# Altium schematic symbol library eUSR_SchLibrary - Processor.SchLib: 8 symbols
Pins are listed as number, name and electrical type; pins without a type are passive.

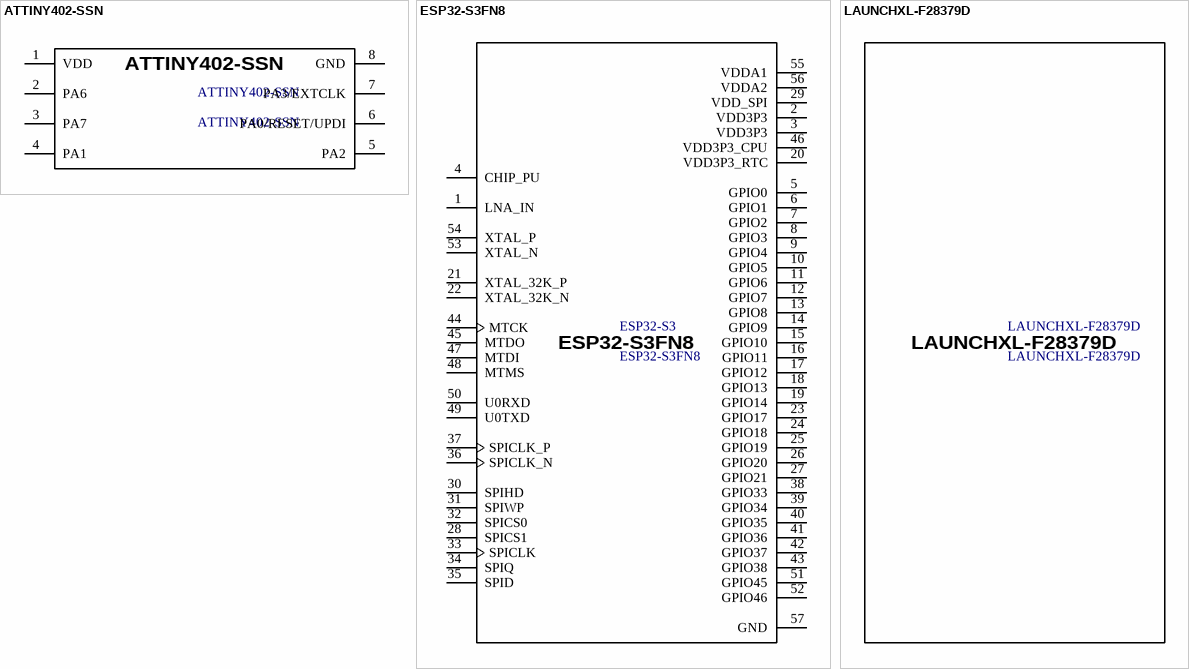
[diagram p0: symbols ATTINY402-SSN to LAUNCHXL-F28379D]

## ATTINY402-SSN
designator ATTINY402-SSN
ComponentLink1Description: Datasheet; ComponentLink1URL: *; ComponentLink2Description: Distributor Link; ComponentLink2URL: *
footprint QFN-56 (Footprint not found)
pins: 1 VDD, 2 PA6 (power), 3 PA7 (power), 4 PA1, 5 PA2, 6 PA0/RESET/UPDI, 7 PA3/EXTCLK, 8 GND

## ESP32-S3FN8
designator ESP32-S3
ComponentLink1Description: Datasheet; ComponentLink1URL: *; ComponentLink2Description: Distributor Link; ComponentLink2URL: *
footprint QFN-56 (Footprint not found)
pins: 1 LNA_IN, 2 VDD3P3 (power), 3 VDD3P3 (power), 4 CHIP_PU, 5 GPIO0, 6 GPIO1, 7 GPIO2, 8 GPIO3, 9 GPIO4, 10 GPIO5, 11 GPIO6, 12 GPIO7, 13 GPIO8, 14 GPIO9, 15 GPIO10, 16 GPIO11, 17 GPIO12, 18 GPIO13, 19 GPIO14, 20 VDD3P3_RTC (power), 21 XTAL_32K_P, 22 XTAL_32K_N, 23 GPIO17, 24 GPIO18, 25 GPIO19, 26 GPIO20, 27 GPIO21, 28 SPICS1, 29 VDD_SPI (power), 30 SPIHD, 31 SPIWP, 32 SPICS0, 33 SPICLK, 34 SPIQ, 35 SPID, 36 SPICLK_N, 37 SPICLK_P, 38 GPIO33, 39 GPIO34, 40 GPIO35, 41 GPIO36, 42 GPIO37, 43 GPIO38, 44 MTCK, 45 MTDO, 46 VDD3P3_CPU (power), 47 MTDI, 48 MTMS, 49 U0TXD, 50 U0RXD, 51 GPIO45, 52 GPIO46, 53 XTAL_N, 54 XTAL_P, 55 VDDA1 (power), 56 VDDA2 (power), 57 GND (power)

## LAUNCHXL-F28379D
designator LAUNCHXL-F28379D
ComponentLink1Description: Datasheet; ComponentLink1URL: *; ComponentLink2Description: Distributor Link; ComponentLink2URL: *
footprint QFN-56 (Footprint not found)

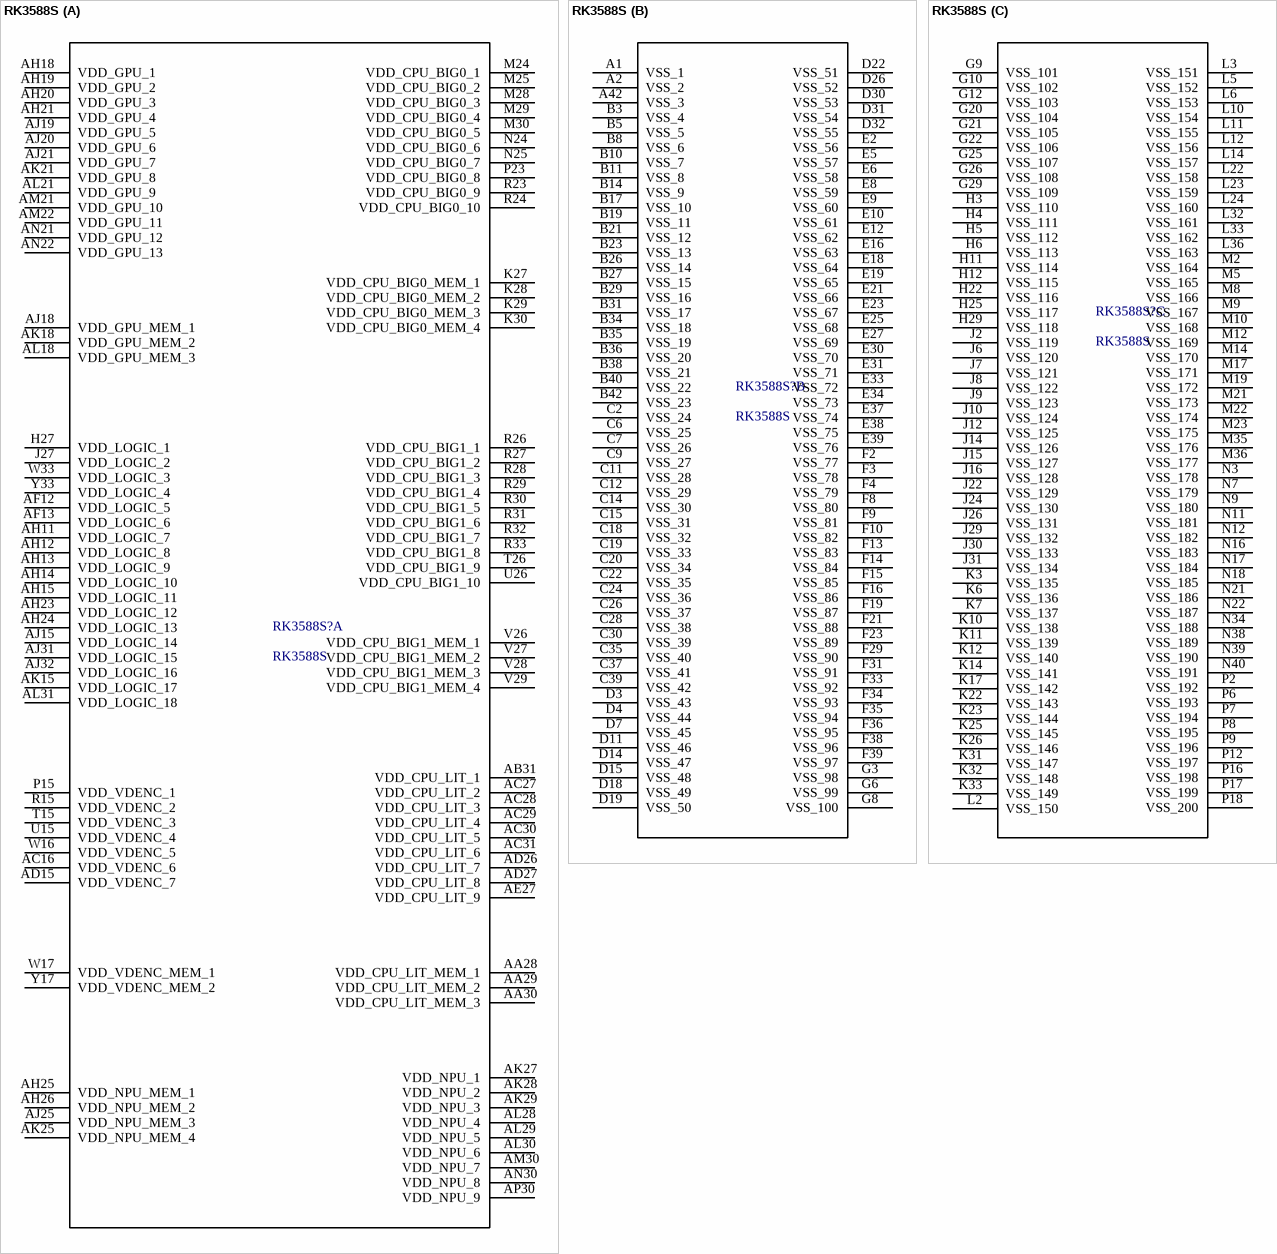
[diagram p1: symbol RK3588S]

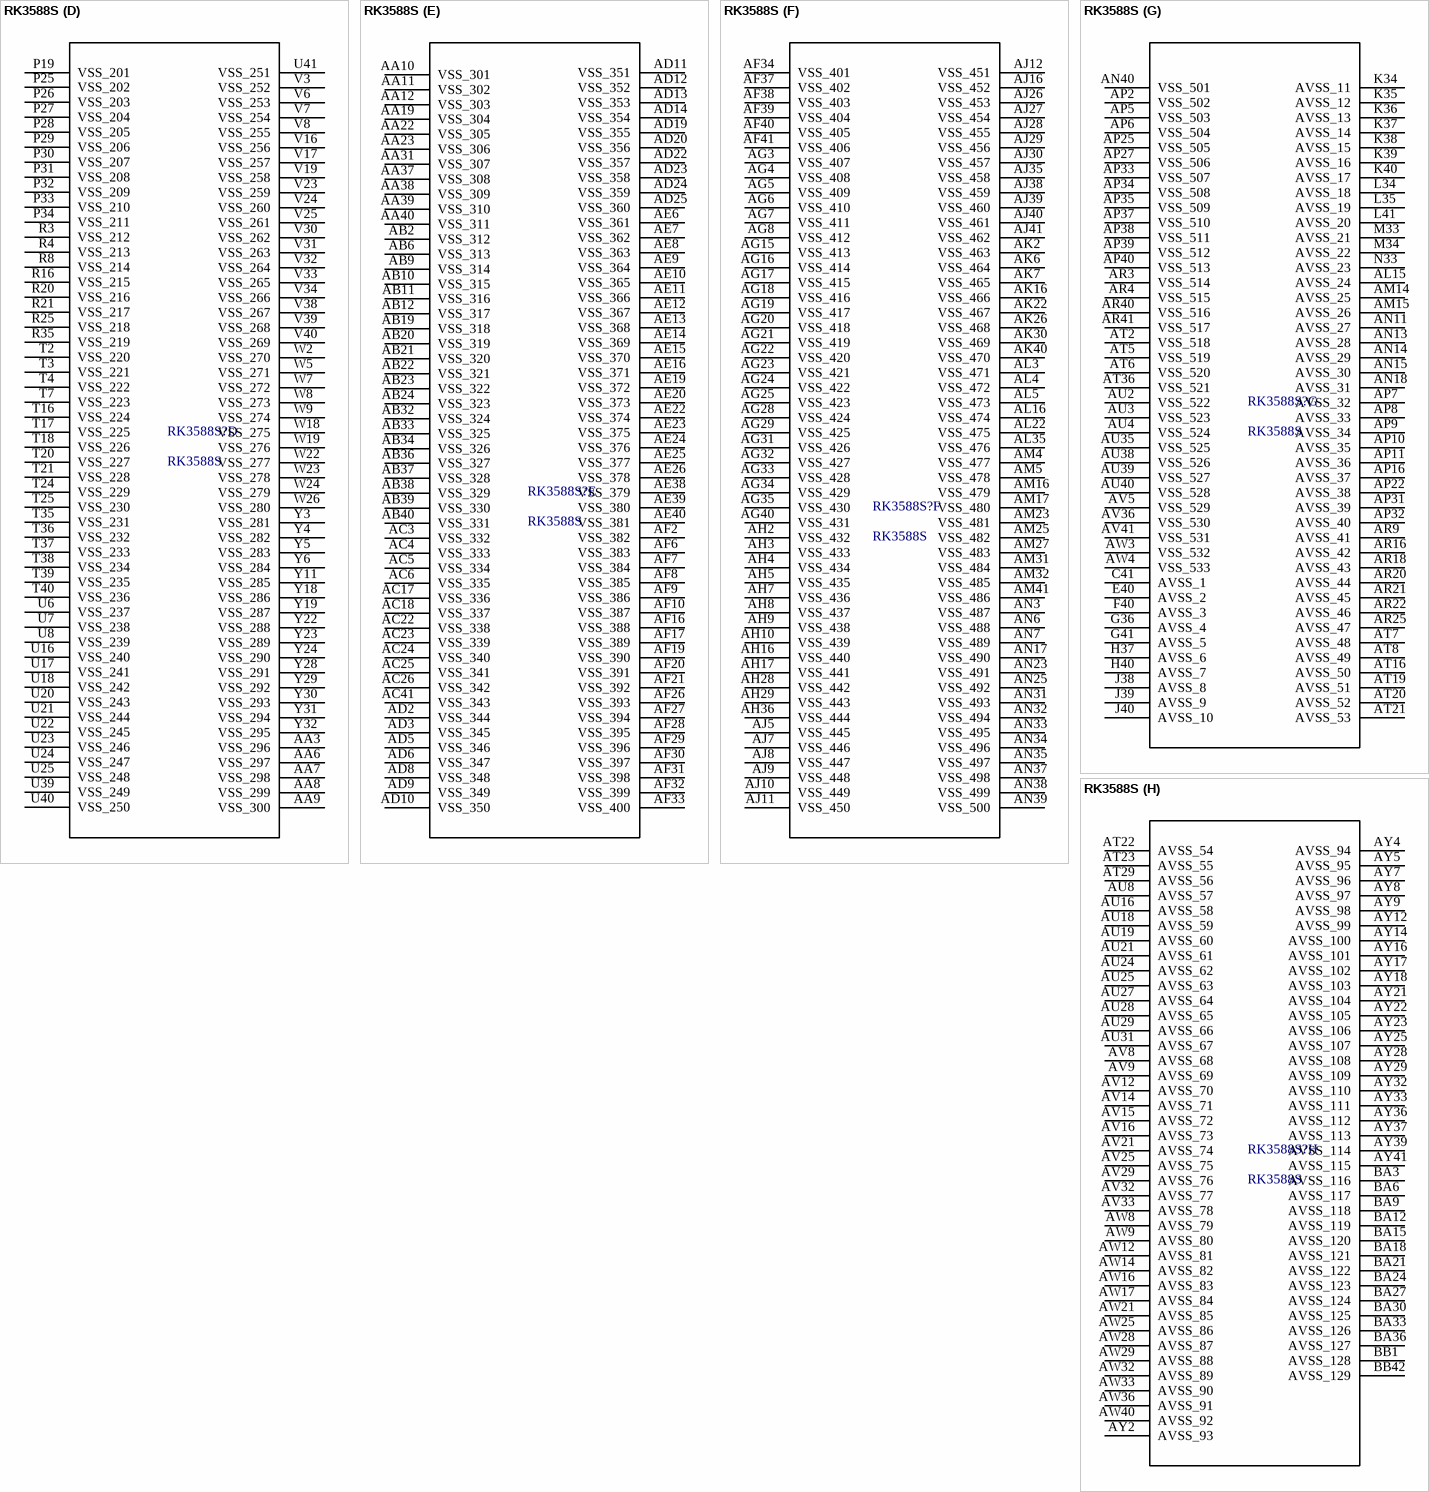
[diagram p2: symbol RK3588S]

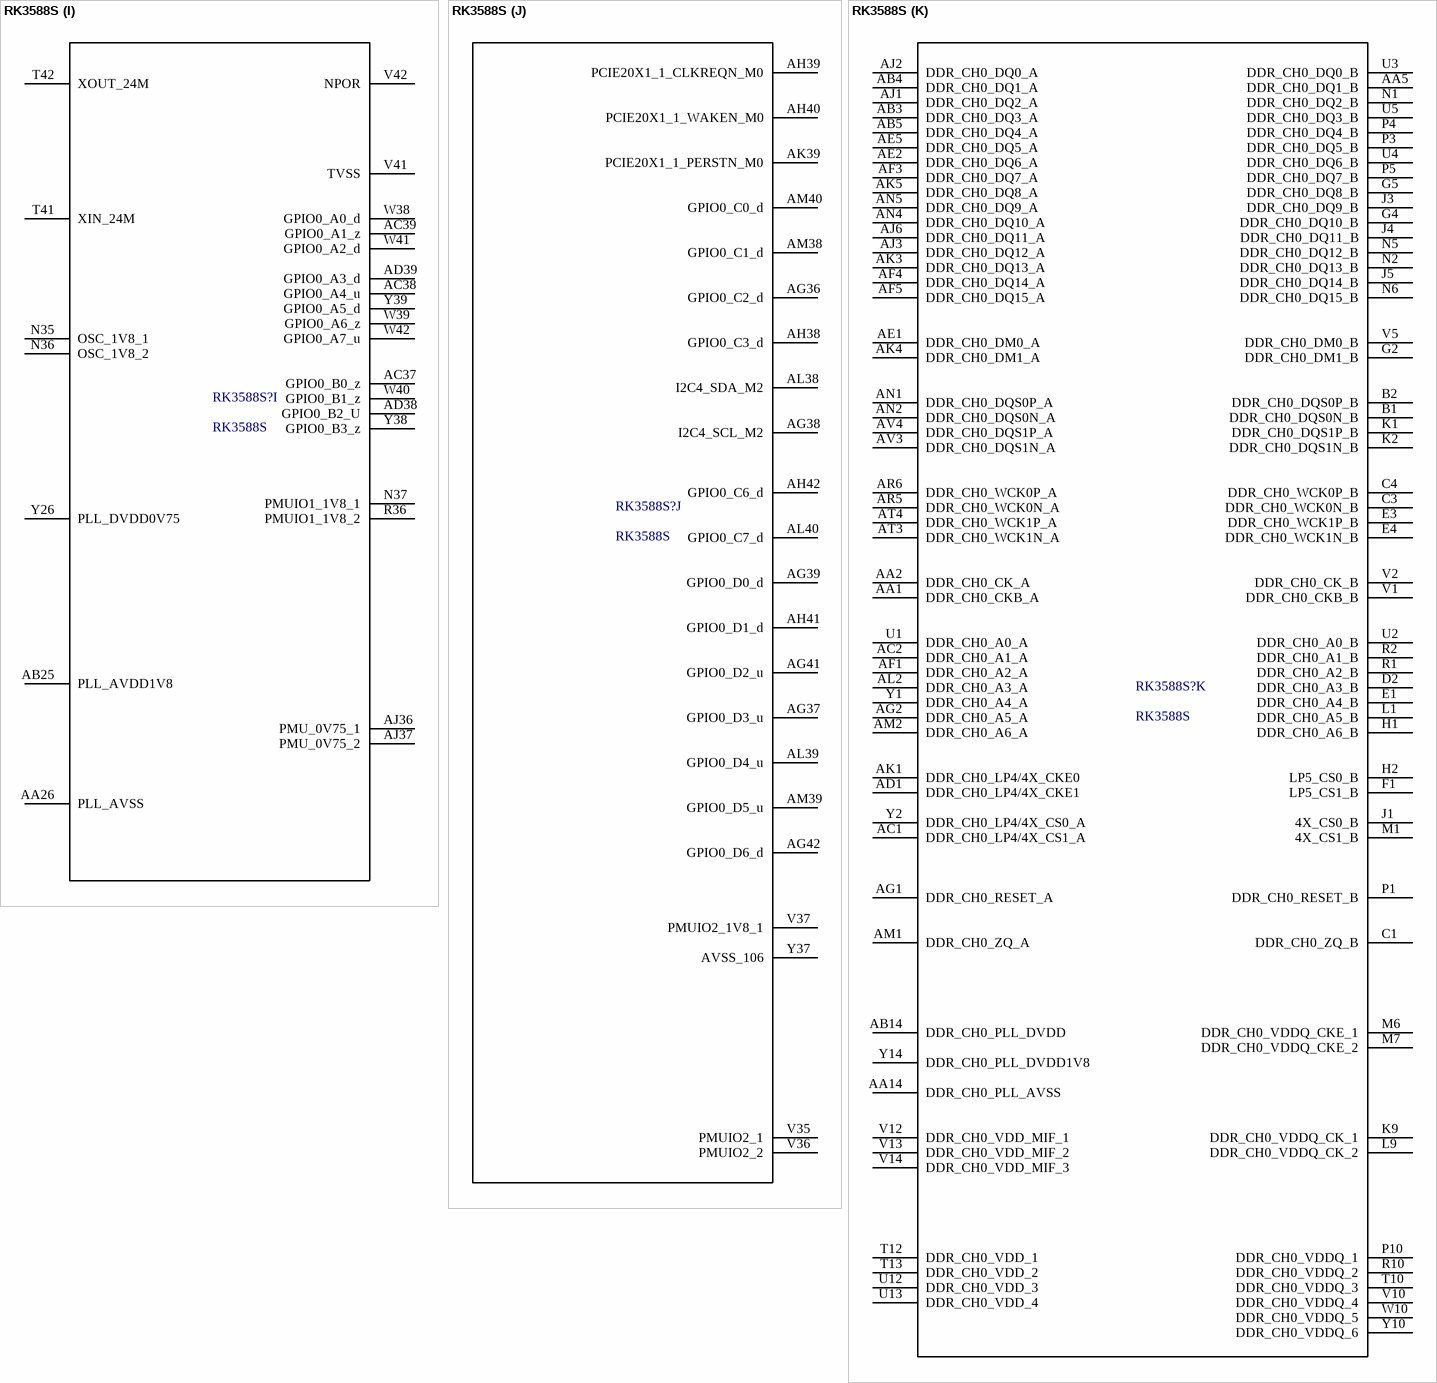
[diagram p3: symbol RK3588S]

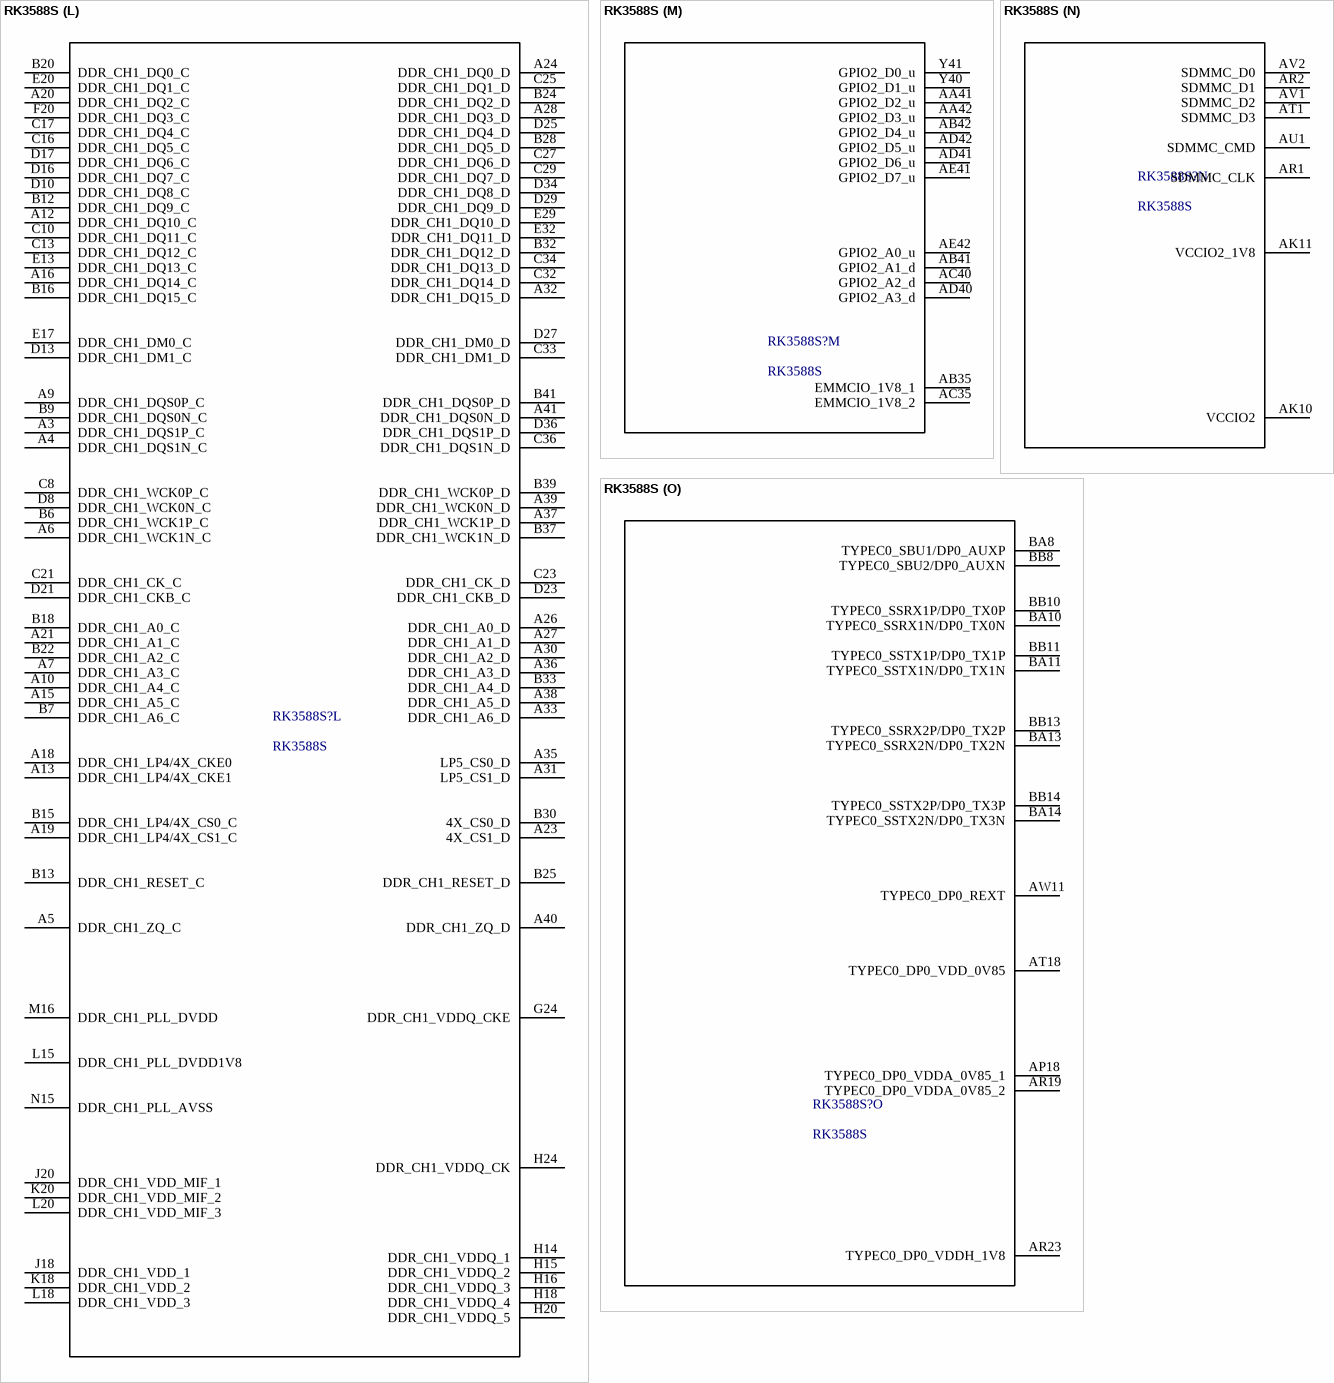
[diagram p4: symbol RK3588S]

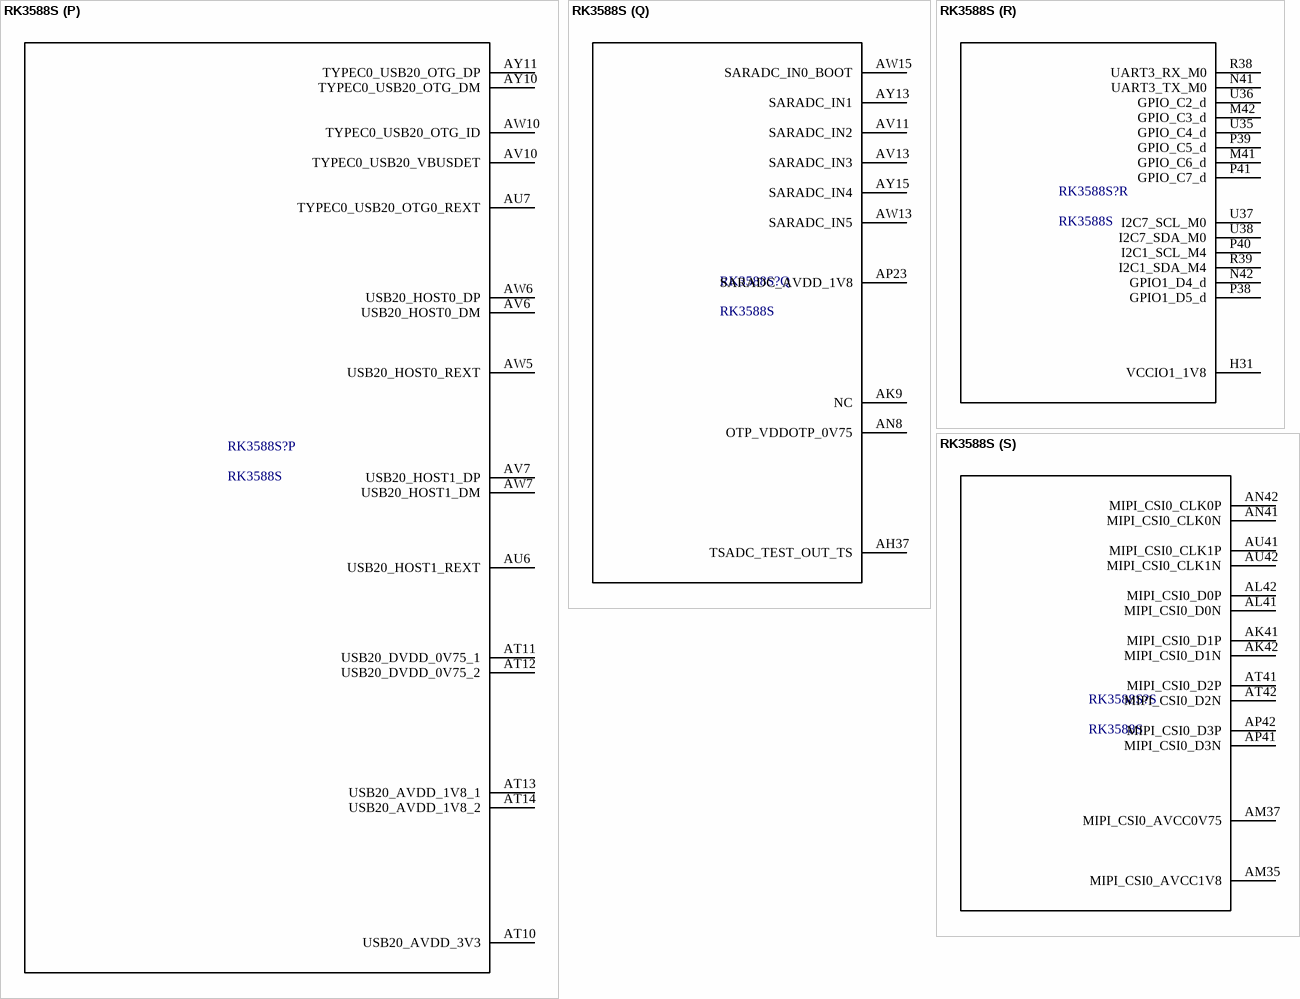
[diagram p5: symbol RK3588S]

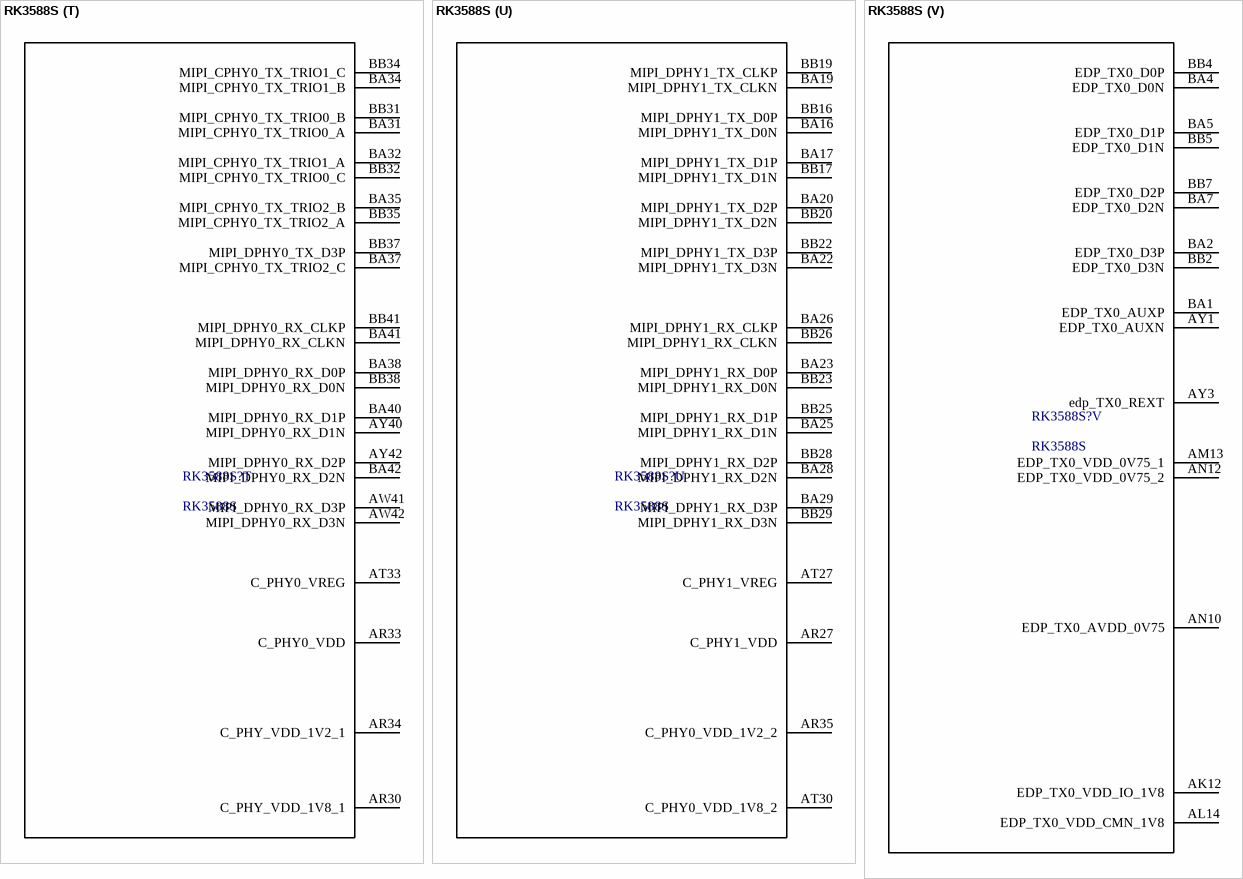
[diagram p6: symbol RK3588S]

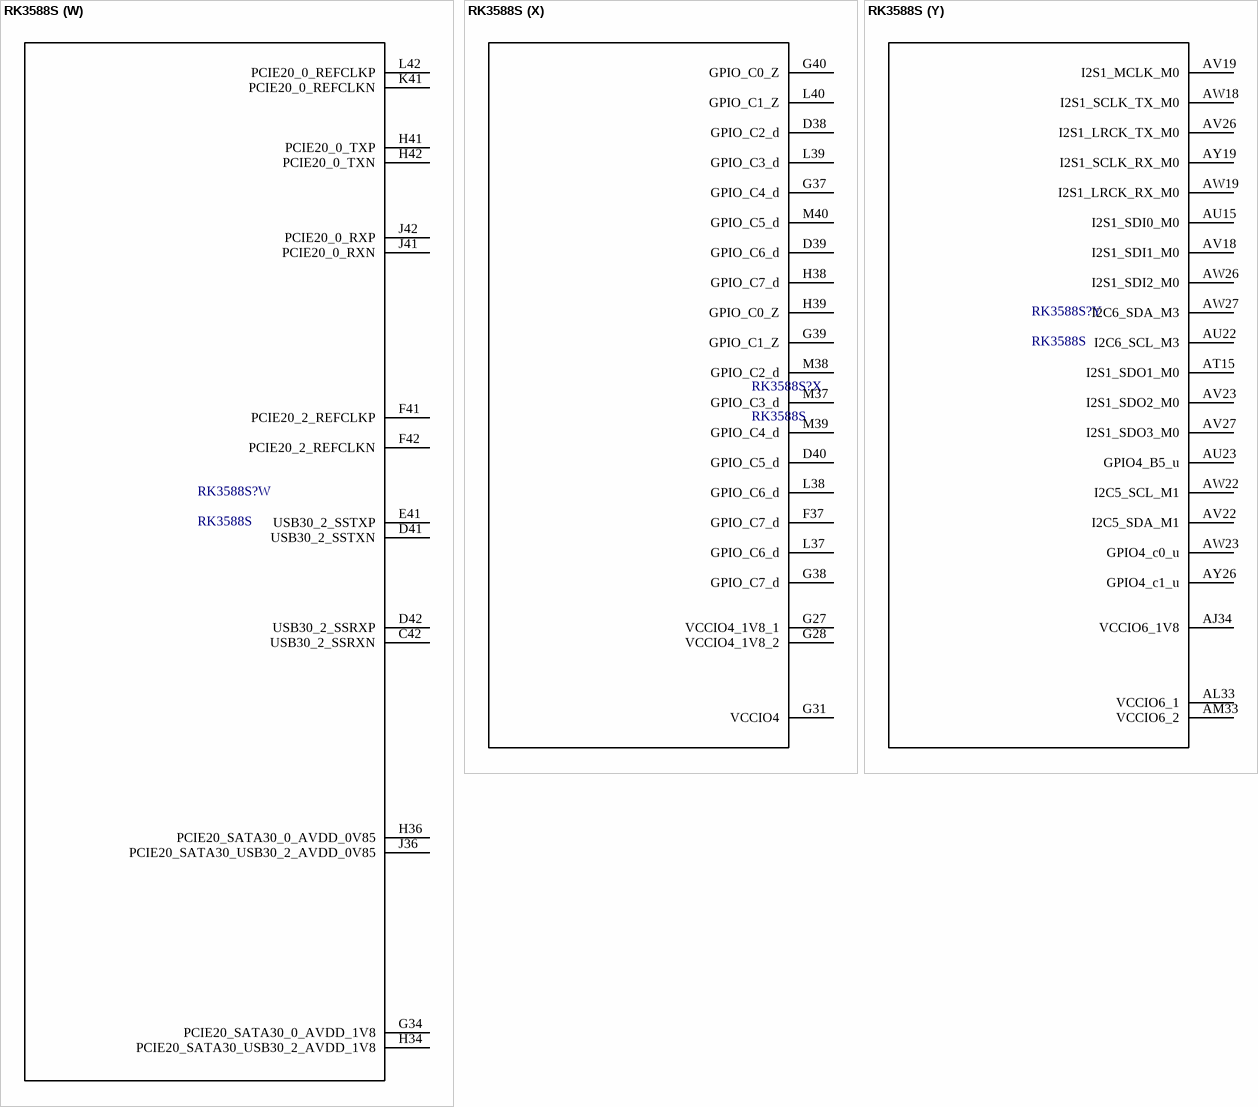
[diagram p7: symbol RK3588S]

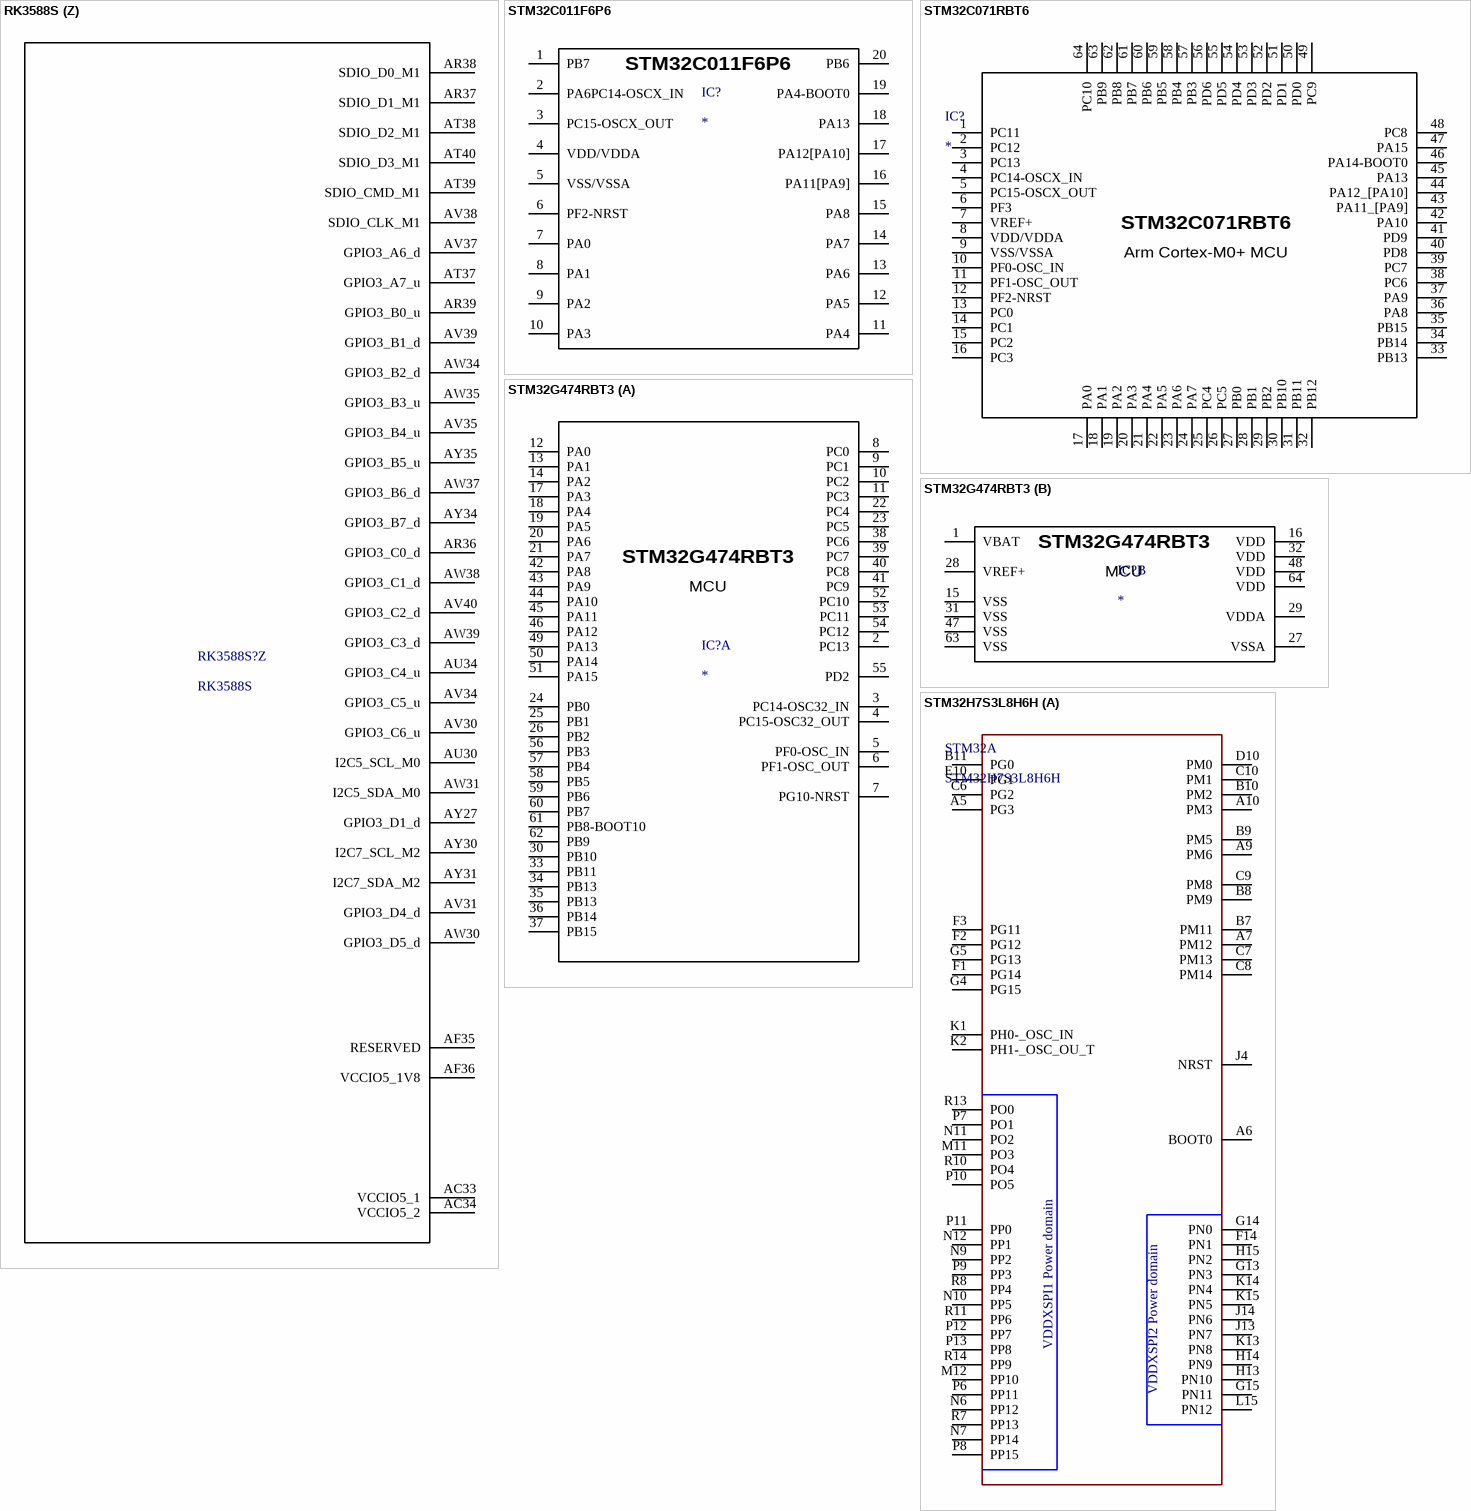
[diagram p8: symbols RK3588S to STM32H7S3L8H6H]

## RK3588S
designator RK3588S?
ComponentLink1Description: Datasheet; ComponentLink1URL: *; ComponentLink2Description: Distributor Link; ComponentLink2URL: *
part A pins: AA28 VDD_CPU_LIT_MEM_1, AA29 VDD_CPU_LIT_MEM_2, AA30 VDD_CPU_LIT_MEM_3, AB31 VDD_CPU_LIT_1, AC16 VDD_VDENC_6, AC27 VDD_CPU_LIT_2, AC28 VDD_CPU_LIT_3, AC29 VDD_CPU_LIT_4, AC30 VDD_CPU_LIT_5, AC31 VDD_CPU_LIT_6, AD15 VDD_VDENC_7, AD26 VDD_CPU_LIT_7, AD27 VDD_CPU_LIT_8, AE27 VDD_CPU_LIT_9, AF12 VDD_LOGIC_5, AF13 VDD_LOGIC_6, AH11 VDD_LOGIC_7, AH12 VDD_LOGIC_8, AH13 VDD_LOGIC_9, AH14 VDD_LOGIC_10, AH15 VDD_LOGIC_11, AH18 VDD_GPU_1, AH19 VDD_GPU_2, AH20 VDD_GPU_3, AH21 VDD_GPU_4, AH23 VDD_LOGIC_12, AH24 VDD_LOGIC_13, AH25 VDD_NPU_MEM_1, AH26 VDD_NPU_MEM_2, AJ15 VDD_LOGIC_14, AJ18 VDD_GPU_MEM_1, AJ19 VDD_GPU_5, AJ20 VDD_GPU_6, AJ21 VDD_GPU_7, AJ25 VDD_NPU_MEM_3, AJ31 VDD_LOGIC_15, AJ32 VDD_LOGIC_16, AK15 VDD_LOGIC_17, AK18 VDD_GPU_MEM_2, AK21 VDD_GPU_8, AK25 VDD_NPU_MEM_4, AK27 VDD_NPU_1, AK28 VDD_NPU_2, AK29 VDD_NPU_3, AL18 VDD_GPU_MEM_3, AL21 VDD_GPU_9, AL28 VDD_NPU_4, AL29 VDD_NPU_5, AL30 VDD_NPU_6, AL31 VDD_LOGIC_18, AM21 VDD_GPU_10, AM22 VDD_GPU_11, AM30 VDD_NPU_7, AN21 VDD_GPU_12, AN22 VDD_GPU_13, AN30 VDD_NPU_8, AP30 VDD_NPU_9, H27 VDD_LOGIC_1, J27 VDD_LOGIC_2, K27 VDD_CPU_BIG0_MEM_1, K28 VDD_CPU_BIG0_MEM_2, K29 VDD_CPU_BIG0_MEM_3, K30 VDD_CPU_BIG0_MEM_4, M24 VDD_CPU_BIG0_1, M25 VDD_CPU_BIG0_2, M28 VDD_CPU_BIG0_3, M29 VDD_CPU_BIG0_4, M30 VDD_CPU_BIG0_5, N24 VDD_CPU_BIG0_6, N25 VDD_CPU_BIG0_7, P15 VDD_VDENC_1, P23 VDD_CPU_BIG0_8, R15 VDD_VDENC_2, R23 VDD_CPU_BIG0_9, R24 VDD_CPU_BIG0_10, R26 VDD_CPU_BIG1_1, R27 VDD_CPU_BIG1_2, R28 VDD_CPU_BIG1_3, R29 VDD_CPU_BIG1_4, R30 VDD_CPU_BIG1_5, R31 VDD_CPU_BIG1_6, R32 VDD_CPU_BIG1_7, R33 VDD_CPU_BIG1_8, T15 VDD_VDENC_3, T26 VDD_CPU_BIG1_9, U15 VDD_VDENC_4, U26 VDD_CPU_BIG1_10, V26 VDD_CPU_BIG1_MEM_1, V27 VDD_CPU_BIG1_MEM_2, V28 VDD_CPU_BIG1_MEM_3, V29 VDD_CPU_BIG1_MEM_4, W16 VDD_VDENC_5, W17 VDD_VDENC_MEM_1, W33 VDD_LOGIC_3, Y17 VDD_VDENC_MEM_2, Y33 VDD_LOGIC_4
part B pins: A1 VSS_1, A2 VSS_2, A42 VSS_3, B3 VSS_4, B5 VSS_5, B8 VSS_6, B10 VSS_7, B11 VSS_8, B14 VSS_9, B17 VSS_10, B19 VSS_11, B21 VSS_12, B23 VSS_13, B26 VSS_14, B27 VSS_15, B29 VSS_16, B31 VSS_17, B34 VSS_18, B35 VSS_19, B36 VSS_20, B38 VSS_21, B40 VSS_22, B42 VSS_23, C2 VSS_24, C6 VSS_25, C7 VSS_26, C9 VSS_27, C11 VSS_28, C12 VSS_29, C14 VSS_30, C15 VSS_31, C18 VSS_32, C19 VSS_33, C20 VSS_34, C22 VSS_35, C24 VSS_36, C26 VSS_37, C28 VSS_38, C30 VSS_39, C35 VSS_40, C37 VSS_41, C39 VSS_42, D3 VSS_43, D4 VSS_44, D7 VSS_45, D11 VSS_46, D14 VSS_47, D15 VSS_48, D18 VSS_49, D19 VSS_50, D22 VSS_51, D26 VSS_52, D30 VSS_53, D31 VSS_54, D32 VSS_55, E2 VSS_56, E5 VSS_57, E6 VSS_58, E8 VSS_59, E9 VSS_60, E10 VSS_61, E12 VSS_62, E16 VSS_63, E18 VSS_64, E19 VSS_65, E21 VSS_66, E23 VSS_67, E25 VSS_68, E27 VSS_69, E30 VSS_70, E31 VSS_71, E33 VSS_72, E34 VSS_73, E37 VSS_74, E38 VSS_75, E39 VSS_76, F2 VSS_77, F3 VSS_78, F4 VSS_79, F8 VSS_80, F9 VSS_81, F10 VSS_82, F13 VSS_83, F14 VSS_84, F15 VSS_85, F16 VSS_86, F19 VSS_87, F21 VSS_88, F23 VSS_89, F29 VSS_90, F31 VSS_91, F33 VSS_92, F34 VSS_93, F35 VSS_94, F36 VSS_95, F38 VSS_96, F39 VSS_97, G3 VSS_98, G6 VSS_99, G8 VSS_100
part C pins: G9 VSS_101, G10 VSS_102, G12 VSS_103, G20 VSS_104, G21 VSS_105, G22 VSS_106, G25 VSS_107, G26 VSS_108, G29 VSS_109, H3 VSS_110, H4 VSS_111, H5 VSS_112, H6 VSS_113, H11 VSS_114, H12 VSS_115, H22 VSS_116, H25 VSS_117, H29 VSS_118, J2 VSS_119, J6 VSS_120, J7 VSS_121, J8 VSS_122, J9 VSS_123, J10 VSS_124, J12 VSS_125, J14 VSS_126, J15 VSS_127, J16 VSS_128, J22 VSS_129, J24 VSS_130, J26 VSS_131, J29 VSS_132, J30 VSS_133, J31 VSS_134, K3 VSS_135, K6 VSS_136, K7 VSS_137, K10 VSS_138, K11 VSS_139, K12 VSS_140, K14 VSS_141, K17 VSS_142, K22 VSS_143, K23 VSS_144, K25 VSS_145, K26 VSS_146, K31 VSS_147, K32 VSS_148, K33 VSS_149, L2 VSS_150, L3 VSS_151, L5 VSS_152, L6 VSS_153, L10 VSS_154, L11 VSS_155, L12 VSS_156, L14 VSS_157, L22 VSS_158, L23 VSS_159, L24 VSS_160, L32 VSS_161, L33 VSS_162, L36 VSS_163, M2 VSS_164, M5 VSS_165, M8 VSS_166, M9 VSS_167, M10 VSS_168, M12 VSS_169, M14 VSS_170, M17 VSS_171, M19 VSS_172, M21 VSS_173, M22 VSS_174, M23 VSS_175, M35 VSS_176, M36 VSS_177, N3 VSS_178, N7 VSS_179, N9 VSS_180, N11 VSS_181, N12 VSS_182, N16 VSS_183, N17 VSS_184, N18 VSS_185, N21 VSS_186, N22 VSS_187, N34 VSS_188, N38 VSS_189, N39 VSS_190, N40 VSS_191, P2 VSS_192, P6 VSS_193, P7 VSS_194, P8 VSS_195, P9 VSS_196, P12 VSS_197, P16 VSS_198, P17 VSS_199, P18 VSS_200
part D pins: AA3 VSS_296, AA6 VSS_297, AA7 VSS_298, AA8 VSS_299, AA9 VSS_300, P19 VSS_201, P25 VSS_202, P26 VSS_203, P27 VSS_204, P28 VSS_205, P29 VSS_206, P30 VSS_207, P31 VSS_208, P32 VSS_209, P33 VSS_210, P34 VSS_211, R3 VSS_212, R4 VSS_213, R8 VSS_214, R16 VSS_215, R20 VSS_216, R21 VSS_217, R25 VSS_218, R35 VSS_219, T2 VSS_220, T3 VSS_221, T4 VSS_222, T7 VSS_223, T16 VSS_224, T17 VSS_225, T18 VSS_226, T20 VSS_227, T21 VSS_228, T24 VSS_229, T25 VSS_230, T35 VSS_231, T36 VSS_232, T37 VSS_233, T38 VSS_234, T39 VSS_235, T40 VSS_236, U6 VSS_237, U7 VSS_238, U8 VSS_239, U16 VSS_240, U17 VSS_241, U18 VSS_242, U20 VSS_243, U21 VSS_244, U22 VSS_245, U23 VSS_246, U24 VSS_247, U25 VSS_248, U39 VSS_249, U40 VSS_250, U41 VSS_251, V3 VSS_252, V6 VSS_253, V7 VSS_254, V8 VSS_255, V16 VSS_256, V17 VSS_257, V19 VSS_258, V23 VSS_259, V24 VSS_260, V25 VSS_261, V30 VSS_262, V31 VSS_263, V32 VSS_264, V33 VSS_265, V34 VSS_266, V38 VSS_267, V39 VSS_268, V40 VSS_269, W2 VSS_270, W5 VSS_271, W7 VSS_272, W8 VSS_273, W9 VSS_274, W18 VSS_275, W19 VSS_276, W22 VSS_277, W23 VSS_278, W24 VSS_279, W26 VSS_280, Y3 VSS_281, Y4 VSS_282, Y5 VSS_283, Y6 VSS_284, Y11 VSS_285, Y18 VSS_286, Y19 VSS_287, Y22 VSS_288, Y23 VSS_289, Y24 VSS_290, Y28 VSS_291, Y29 VSS_292, Y30 VSS_293, Y31 VSS_294, Y32 VSS_295
part E pins: AA10 VSS_301, AA11 VSS_302, AA12 VSS_303, AA19 VSS_304, AA22 VSS_305, AA23 VSS_306, AA31 VSS_307, AA37 VSS_308, AA38 VSS_309, AA39 VSS_310, AA40 VSS_311, AB2 VSS_312, AB6 VSS_313, AB9 VSS_314, AB10 VSS_315, AB11 VSS_316, AB12 VSS_317, AB19 VSS_318, AB20 VSS_319, AB21 VSS_320, AB22 VSS_321, AB23 VSS_322, AB24 VSS_323, AB32 VSS_324, AB33 VSS_325, AB34 VSS_326, AB36 VSS_327, AB37 VSS_328, AB38 VSS_329, AB39 VSS_330, AB40 VSS_331, AC3 VSS_332, AC4 VSS_333, AC5 VSS_334, AC6 VSS_335, AC17 VSS_336, AC18 VSS_337, AC22 VSS_338, AC23 VSS_339, AC24 VSS_340, AC25 VSS_341, AC26 VSS_342, AC41 VSS_343, AD2 VSS_344, AD3 VSS_345, AD5 VSS_346, AD6 VSS_347, AD8 VSS_348, AD9 VSS_349, AD10 VSS_350, AD11 VSS_351, AD12 VSS_352, AD13 VSS_353, AD14 VSS_354, AD19 VSS_355, AD20 VSS_356, AD22 VSS_357, AD23 VSS_358, AD24 VSS_359, AD25 VSS_360, AE6 VSS_361, AE7 VSS_362, AE8 VSS_363, AE9 VSS_364, AE10 VSS_365, AE11 VSS_366, AE12 VSS_367, AE13 VSS_368, AE14 VSS_369, AE15 VSS_370, AE16 VSS_371, AE19 VSS_372, AE20 VSS_373, AE22 VSS_374, AE23 VSS_375, AE24 VSS_376, AE25 VSS_377, AE26 VSS_378, AE38 VSS_379, AE39 VSS_380, AE40 VSS_381, AF2 VSS_382, AF6 VSS_383, AF7 VSS_384, AF8 VSS_385, AF9 VSS_386, AF10 VSS_387, AF16 VSS_388, AF17 VSS_389, AF19 VSS_390, AF20 VSS_391, AF21 VSS_392, AF26 VSS_393, AF27 VSS_394, AF28 VSS_395, AF29 VSS_396, AF30 VSS_397, AF31 VSS_398, AF32 VSS_399, AF33 VSS_400
part F pins: AF34 VSS_401, AF37 VSS_402, AF38 VSS_403, AF39 VSS_404, AF40 VSS_405, AF41 VSS_406, AG3 VSS_407, AG4 VSS_408, AG5 VSS_409, AG6 VSS_410, AG7 VSS_411, AG8 VSS_412, AG15 VSS_413, AG16 VSS_414, AG17 VSS_415, AG18 VSS_416, AG19 VSS_417, AG20 VSS_418, AG21 VSS_419, AG22 VSS_420, AG23 VSS_421, AG24 VSS_422, AG25 VSS_423, AG28 VSS_424, AG29 VSS_425, AG31 VSS_426, AG32 VSS_427, AG33 VSS_428, AG34 VSS_429, AG35 VSS_430, AG40 VSS_431, AH2 VSS_432, AH3 VSS_433, AH4 VSS_434, AH5 VSS_435, AH7 VSS_436, AH8 VSS_437, AH9 VSS_438, AH10 VSS_439, AH16 VSS_440, AH17 VSS_441, AH28 VSS_442, AH29 VSS_443, AH36 VSS_444, AJ5 VSS_445, AJ7 VSS_446, AJ8 VSS_447, AJ9 VSS_448, AJ10 VSS_449, AJ11 VSS_450, AJ12 VSS_451, AJ16 VSS_452, AJ26 VSS_453, AJ27 VSS_454, AJ28 VSS_455, AJ29 VSS_456, AJ30 VSS_457, AJ35 VSS_458, AJ38 VSS_459, AJ39 VSS_460, AJ40 VSS_461, AJ41 VSS_462, AK2 VSS_463, AK6 VSS_464, AK7 VSS_465, AK16 VSS_466, AK22 VSS_467, AK26 VSS_468, AK30 VSS_469, AK40 VSS_470, AL3 VSS_471, AL4 VSS_472, AL5 VSS_473, AL16 VSS_474, AL22 VSS_475, AL35 VSS_476, AM4 VSS_477, AM5 VSS_478, AM16 VSS_479, AM17 VSS_480, AM23 VSS_481, AM25 VSS_482, AM27 VSS_483, AM31 VSS_484, AM32 VSS_485, AM41 VSS_486, AN3 VSS_487, AN6 VSS_488, AN7 VSS_489, AN17 VSS_490, AN23 VSS_491, AN25 VSS_492, AN31 VSS_493, AN32 VSS_494, AN33 VSS_495, AN34 VSS_496, AN35 VSS_497, AN37 VSS_498, AN38 VSS_499, AN39 VSS_500
part G pins: AL15 AVSS_24, AM14 AVSS_25, AM15 AVSS_26, AN11 AVSS_27, AN13 AVSS_28, AN14 AVSS_29, AN15 AVSS_30, AN18 AVSS_31, AN40 VSS_501, AP2 VSS_502, AP5 VSS_503, AP6 VSS_504, AP7 AVSS_32, AP8 AVSS_33, AP9 AVSS_34, AP10 AVSS_35, AP11 AVSS_36, AP16 AVSS_37, AP22 AVSS_38, AP25 VSS_505, AP27 VSS_506, AP31 AVSS_39, AP32 AVSS_40, AP33 VSS_507, AP34 VSS_508, AP35 VSS_509, AP37 VSS_510, AP38 VSS_511, AP39 VSS_512, AP40 VSS_513, AR3 VSS_514, AR4 VSS_515, AR9 AVSS_41, AR16 AVSS_42, AR18 AVSS_43, AR20 AVSS_44, AR21 AVSS_45, AR22 AVSS_46, AR25 AVSS_47, AR40 VSS_516, AR41 VSS_517, AT2 VSS_518, AT5 VSS_519, AT6 VSS_520, AT7 AVSS_48, AT8 AVSS_49, AT16 AVSS_50, AT19 AVSS_51, AT20 AVSS_52, AT21 AVSS_53, AT36 VSS_521, AU2 VSS_522, AU3 VSS_523, AU4 VSS_524, AU35 VSS_525, AU38 VSS_526, AU39 VSS_527, AU40 VSS_528, AV5 VSS_529, AV36 VSS_530, AV41 VSS_531, AW3 VSS_532, AW4 VSS_533, C41 AVSS_1, E40 AVSS_2, F40 AVSS_3, G36 AVSS_4, G41 AVSS_5, H37 AVSS_6, H40 AVSS_7, J38 AVSS_8, J39 AVSS_9, J40 AVSS_10, K34 AVSS_11, K35 AVSS_12, K36 AVSS_13, K37 AVSS_14, K38 AVSS_15, K39 AVSS_16, K40 AVSS_17, L34 AVSS_18, L35 AVSS_19, L41 AVSS_20, M33 AVSS_21, M34 AVSS_22, N33 AVSS_23
part H pins: AT22 AVSS_54, AT23 AVSS_55, AT29 AVSS_56, AU8 AVSS_57, AU16 AVSS_58, AU18 AVSS_59, AU19 AVSS_60, AU21 AVSS_61, AU24 AVSS_62, AU25 AVSS_63, AU27 AVSS_64, AU28 AVSS_65, AU29 AVSS_66, AU31 AVSS_67, AV8 AVSS_68, AV9 AVSS_69, AV12 AVSS_70, AV14 AVSS_71, AV15 AVSS_72, AV16 AVSS_73, AV21 AVSS_74, AV25 AVSS_75, AV29 AVSS_76, AV32 AVSS_77, AV33 AVSS_78, AW8 AVSS_79, AW9 AVSS_80, AW12 AVSS_81, AW14 AVSS_82, AW16 AVSS_83, AW17 AVSS_84, AW21 AVSS_85, AW25 AVSS_86, AW28 AVSS_87, AW29 AVSS_88, AW32 AVSS_89, AW33 AVSS_90, AW36 AVSS_91, AW40 AVSS_92, AY2 AVSS_93, AY4 AVSS_94, AY5 AVSS_95, AY7 AVSS_96, AY8 AVSS_97, AY9 AVSS_98, AY12 AVSS_99, AY14 AVSS_100, AY16 AVSS_101, AY17 AVSS_102, AY18 AVSS_103, AY21 AVSS_104, AY22 AVSS_105, AY23 AVSS_106, AY25 AVSS_107, AY28 AVSS_108, AY29 AVSS_109, AY32 AVSS_110, AY33 AVSS_111, AY36 AVSS_112, AY37 AVSS_113, AY39 AVSS_114, AY41 AVSS_115, BA3 AVSS_116, BA6 AVSS_117, BA9 AVSS_118, BA12 AVSS_119, BA15 AVSS_120, BA18 AVSS_121, BA21 AVSS_122, BA24 AVSS_123, BA27 AVSS_124, BA30 AVSS_125, BA33 AVSS_126, BA36 AVSS_127, BB1 AVSS_128, BB42 AVSS_129
part I pins: AA26 PLL_AVSS, AB25 PLL_AVDD1V8, AC37 GPIO0_B0_z, AC38 GPIO0_A4_u, AC39 GPIO0_A1_z, AD38 GPIO0_B2_U, AD39 GPIO0_A3_d, AJ36 PMU_0V75_1, AJ37 PMU_0V75_2, N35 OSC_1V8_1, N36 OSC_1V8_2, N37 PMUIO1_1V8_1, R36 PMUIO1_1V8_2, T41 XIN_24M, T42 XOUT_24M, V41 TVSS, V42 NPOR, W38 GPIO0_A0_d, W39 GPIO0_A6_z, W40 GPIO0_B1_z, W41 GPIO0_A2_d, W42 GPIO0_A7_u, Y26 PLL_DVDD0V75, Y38 GPIO0_B3_z, Y39 GPIO0_A5_d
part J pins: AG36 GPIO0_C2_d, AG37 GPIO0_D3_u, AG38 I2C4_SCL_M2, AG39 GPIO0_D0_d, AG41 GPIO0_D2_u, AG42 GPIO0_D6_d, AH38 GPIO0_C3_d, AH39 PCIE20X1_1_CLKREQN_M0, AH40 PCIE20X1_1_WAKEN_M0, AH41 GPIO0_D1_d, AH42 GPIO0_C6_d, AK39 PCIE20X1_1_PERSTN_M0, AL38 I2C4_SDA_M2, AL39 GPIO0_D4_u, AL40 GPIO0_C7_d, AM38 GPIO0_C1_d, AM39 GPIO0_D5_u, AM40 GPIO0_C0_d, V35 PMUIO2_1, V36 PMUIO2_2, V37 PMUIO2_1V8_1, Y37 AVSS_106
part K pins: AA1 DDR_CH0_CKB_A, AA2 DDR_CH0_CK_A, AA5 DDR_CH0_DQ1_B, AA14 DDR_CH0_PLL_AVSS, AB3 DDR_CH0_DQ3_A, AB4 DDR_CH0_DQ1_A, AB5 DDR_CH0_DQ4_A, AB14 DDR_CH0_PLL_DVDD, AC1 DDR_CH0_LP4/4X_CS1_A, AC2 DDR_CH0_A1_A, AD1 DDR_CH0_LP4/4X_CKE1, AE1 DDR_CH0_DM0_A, AE2 DDR_CH0_DQ6_A, AE5 DDR_CH0_DQ5_A, AF1 DDR_CH0_A2_A, AF3 DDR_CH0_DQ7_A, AF4 DDR_CH0_DQ14_A, AF5 DDR_CH0_DQ15_A, AG1 DDR_CH0_RESET_A, AG2 DDR_CH0_A5_A, AJ1 DDR_CH0_DQ2_A, AJ2 DDR_CH0_DQ0_A, AJ3 DDR_CH0_DQ12_A, AJ6 DDR_CH0_DQ11_A, AK1 DDR_CH0_LP4/4X_CKE0, AK3 DDR_CH0_DQ13_A, AK4 DDR_CH0_DM1_A, AK5 DDR_CH0_DQ8_A, AL2 DDR_CH0_A3_A, AM1 DDR_CH0_ZQ_A, AM2 DDR_CH0_A6_A, AN1 DDR_CH0_DQS0P_A, AN2 DDR_CH0_DQS0N_A, AN4 DDR_CH0_DQ10_A, AN5 DDR_CH0_DQ9_A, AR5 DDR_CH0_WCK0N_A, AR6 DDR_CH0_WCK0P_A, AT3 DDR_CH0_WCK1N_A, AT4 DDR_CH0_WCK1P_A, AV3 DDR_CH0_DQS1N_A, AV4 DDR_CH0_DQS1P_A, B1 DDR_CH0_DQS0N_B, B2 DDR_CH0_DQS0P_B, C1 DDR_CH0_ZQ_B, C3 DDR_CH0_WCK0N_B, C4 DDR_CH0_WCK0P_B, D2 DDR_CH0_A3_B, E1 DDR_CH0_A4_B, E3 DDR_CH0_WCK1P_B, E4 DDR_CH0_WCK1N_B, F1 LP5_CS1_B, G2 DDR_CH0_DM1_B, G4 DDR_CH0_DQ10_B, G5 DDR_CH0_DQ8_B, H1 DDR_CH0_A6_B, H2 LP5_CS0_B, J1 4X_CS0_B, J3 DDR_CH0_DQ9_B, J4 DDR_CH0_DQ11_B, J5 DDR_CH0_DQ14_B, K1 DDR_CH0_DQS1P_B, K2 DDR_CH0_DQS1N_B, K9 DDR_CH0_VDDQ_CK_1, L1 DDR_CH0_A5_B, L9 DDR_CH0_VDDQ_CK_2, M1 4X_CS1_B, M6 DDR_CH0_VDDQ_CKE_1, M7 DDR_CH0_VDDQ_CKE_2, N1 DDR_CH0_DQ2_B, N2 DDR_CH0_DQ13_B, N5 DDR_CH0_DQ12_B, N6 DDR_CH0_DQ15_B, P1 DDR_CH0_RESET_B, P3 DDR_CH0_DQ5_B, P4 DDR_CH0_DQ4_B, P5 DDR_CH0_DQ7_B, P10 DDR_CH0_VDDQ_1, R1 DDR_CH0_A2_B, R2 DDR_CH0_A1_B, R10 DDR_CH0_VDDQ_2, T10 DDR_CH0_VDDQ_3, T12 DDR_CH0_VDD_1, T13 DDR_CH0_VDD_2, U1 DDR_CH0_A0_A, U2 DDR_CH0_A0_B, U3 DDR_CH0_DQ0_B, U4 DDR_CH0_DQ6_B, U5 DDR_CH0_DQ3_B, U12 DDR_CH0_VDD_3, U13 DDR_CH0_VDD_4, V1 DDR_CH0_CKB_B, V2 DDR_CH0_CK_B, V5 DDR_CH0_DM0_B, V10 DDR_CH0_VDDQ_4, V12 DDR_CH0_VDD_MIF_1, V13 DDR_CH0_VDD_MIF_2, V14 DDR_CH0_VDD_MIF_3, W10 DDR_CH0_VDDQ_5, Y1 DDR_CH0_A4_A, Y2 DDR_CH0_LP4/4X_CS0_A, Y10 DDR_CH0_VDDQ_6, Y14 DDR_CH0_PLL_DVDD1V8
part L pins: A3 DDR_CH1_DQS1P_C, A4 DDR_CH1_DQS1N_C, A5 DDR_CH1_ZQ_C, A6 DDR_CH1_WCK1N_C, A7 DDR_CH1_A3_C, A9 DDR_CH1_DQS0P_C, A10 DDR_CH1_A4_C, A12 DDR_CH1_DQ10_C, A13 DDR_CH1_LP4/4X_CKE1, A15 DDR_CH1_A5_C, A16 DDR_CH1_DQ14_C, A18 DDR_CH1_LP4/4X_CKE0, A19 DDR_CH1_LP4/4X_CS1_C, A20 DDR_CH1_DQ2_C, A21 DDR_CH1_A1_C, A23 4X_CS1_D, A24 DDR_CH1_DQ0_D, A26 DDR_CH1_A0_D, A27 DDR_CH1_A1_D, A28 DDR_CH1_DQ3_D, A30 DDR_CH1_A2_D, A31 LP5_CS1_D, A32 DDR_CH1_DQ15_D, A33 DDR_CH1_A6_D, A35 LP5_CS0_D, A36 DDR_CH1_A3_D, A37 DDR_CH1_WCK1P_D, A38 DDR_CH1_A5_D, A39 DDR_CH1_WCK0N_D, A40 DDR_CH1_ZQ_D, A41 DDR_CH1_DQS0N_D, B6 DDR_CH1_WCK1P_C, B7 DDR_CH1_A6_C, B9 DDR_CH1_DQS0N_C, B12 DDR_CH1_DQ9_C, B13 DDR_CH1_RESET_C, B15 DDR_CH1_LP4/4X_CS0_C, B16 DDR_CH1_DQ15_C, B18 DDR_CH1_A0_C, B20 DDR_CH1_DQ0_C, B22 DDR_CH1_A2_C, B24 DDR_CH1_DQ2_D, B25 DDR_CH1_RESET_D, B28 DDR_CH1_DQ5_D, B30 4X_CS0_D, B32 DDR_CH1_DQ12_D, B33 DDR_CH1_A4_D, B37 DDR_CH1_WCK1N_D, B39 DDR_CH1_WCK0P_D, B41 DDR_CH1_DQS0P_D, C8 DDR_CH1_WCK0P_C, C10 DDR_CH1_DQ11_C, C13 DDR_CH1_DQ12_C, C16 DDR_CH1_DQ5_C, C17 DDR_CH1_DQ4_C, C21 DDR_CH1_CK_C, C23 DDR_CH1_CK_D, C25 DDR_CH1_DQ1_D, C27 DDR_CH1_DQ6_D, C29 DDR_CH1_DQ7_D, C32 DDR_CH1_DQ14_D, C33 DDR_CH1_DM1_D, C34 DDR_CH1_DQ13_D, C36 DDR_CH1_DQS1N_D, D8 DDR_CH1_WCK0N_C, D10 DDR_CH1_DQ8_C, D13 DDR_CH1_DM1_C, D16 DDR_CH1_DQ7_C, D17 DDR_CH1_DQ6_C, D21 DDR_CH1_CKB_C, D23 DDR_CH1_CKB_D, D25 DDR_CH1_DQ4_D, D27 DDR_CH1_DM0_D, D29 DDR_CH1_DQ9_D, D34 DDR_CH1_DQ8_D, D36 DDR_CH1_DQS1P_D, E13 DDR_CH1_DQ13_C, E17 DDR_CH1_DM0_C, E20 DDR_CH1_DQ1_C, E29 DDR_CH1_DQ10_D, E32 DDR_CH1_DQ11_D, F20 DDR_CH1_DQ3_C, G24 DDR_CH1_VDDQ_CKE, H14 DDR_CH1_VDDQ_1, H15 DDR_CH1_VDDQ_2, H16 DDR_CH1_VDDQ_3, H18 DDR_CH1_VDDQ_4, H20 DDR_CH1_VDDQ_5, H24 DDR_CH1_VDDQ_CK, J18 DDR_CH1_VDD_1, J20 DDR_CH1_VDD_MIF_1, K18 DDR_CH1_VDD_2, K20 DDR_CH1_VDD_MIF_2, L15 DDR_CH1_PLL_DVDD1V8, L18 DDR_CH1_VDD_3, L20 DDR_CH1_VDD_MIF_3, M16 DDR_CH1_PLL_DVDD, N15 DDR_CH1_PLL_AVSS
part M pins: AA41 GPIO2_D2_u, AA42 GPIO2_D3_u, AB35 EMMCIO_1V8_1, AB41 GPIO2_A1_d, AB42 GPIO2_D4_u, AC35 EMMCIO_1V8_2, AC40 GPIO2_A2_d, AD40 GPIO2_A3_d, AD41 GPIO2_D6_u, AD42 GPIO2_D5_u, AE41 GPIO2_D7_u, AE42 GPIO2_A0_u, Y40 GPIO2_D1_u, Y41 GPIO2_D0_u
part N pins: AK10 VCCIO2, AK11 VCCIO2_1V8, AR1 SDMMC_CLK, AR2 SDMMC_D1, AT1 SDMMC_D3, AU1 SDMMC_CMD, AV1 SDMMC_D2, AV2 SDMMC_D0
part O pins: AP18 TYPEC0_DP0_VDDA_0V85_1, AR19 TYPEC0_DP0_VDDA_0V85_2, AR23 TYPEC0_DP0_VDDH_1V8, AT18 TYPEC0_DP0_VDD_0V85, AW11 TYPEC0_DP0_REXT, BA8 TYPEC0_SBU1/DP0_AUXP, BA10 TYPEC0_SSRX1N/DP0_TX0N, BA11 TYPEC0_SSTX1N/DP0_TX1N, BA13 TYPEC0_SSRX2N/DP0_TX2N, BA14 TYPEC0_SSTX2N/DP0_TX3N, BB8 TYPEC0_SBU2/DP0_AUXN, BB10 TYPEC0_SSRX1P/DP0_TX0P, BB11 TYPEC0_SSTX1P/DP0_TX1P, BB13 TYPEC0_SSRX2P/DP0_TX2P, BB14 TYPEC0_SSTX2P/DP0_TX3P
part P pins: AT10 USB20_AVDD_3V3, AT11 USB20_DVDD_0V75_1, AT12 USB20_DVDD_0V75_2, AT13 USB20_AVDD_1V8_1, AT14 USB20_AVDD_1V8_2, AU6 USB20_HOST1_REXT, AU7 TYPEC0_USB20_OTG0_REXT, AV6 USB20_HOST0_DM, AV7 USB20_HOST1_DP, AV10 TYPEC0_USB20_VBUSDET, AW5 USB20_HOST0_REXT, AW6 USB20_HOST0_DP, AW7 USB20_HOST1_DM, AW10 TYPEC0_USB20_OTG_ID, AY10 TYPEC0_USB20_OTG_DM, AY11 TYPEC0_USB20_OTG_DP
part Q pins: AH37 TSADC_TEST_OUT_TS, AK9 NC, AN8 OTP_VDDOTP_0V75, AP23 SARADC_AVDD_1V8, AV11 SARADC_IN2, AV13 SARADC_IN3, AW13 SARADC_IN5, AW15 SARADC_IN0_BOOT, AY13 SARADC_IN1, AY15 SARADC_IN4
part R pins: H31 VCCIO1_1V8, M41 GPIO_C6_d, M42 GPIO_C3_d, N41 UART3_TX_M0, N42 GPIO1_D4_d, P38 GPIO1_D5_d, P39 GPIO_C5_d, P40 I2C1_SCL_M4, P41 GPIO_C7_d, R38 UART3_RX_M0, R39 I2C1_SDA_M4, U35 GPIO_C4_d, U36 GPIO_C2_d, U37 I2C7_SCL_M0, U38 I2C7_SDA_M0
part S pins: AK41 MIPI_CSI0_D1P, AK42 MIPI_CSI0_D1N, AL41 MIPI_CSI0_D0N, AL42 MIPI_CSI0_D0P, AM35 MIPI_CSI0_AVCC1V8, AM37 MIPI_CSI0_AVCC0V75, AN41 MIPI_CSI0_CLK0N, AN42 MIPI_CSI0_CLK0P, AP41 MIPI_CSI0_D3N, AP42 MIPI_CSI0_D3P, AT41 MIPI_CSI0_D2P, AT42 MIPI_CSI0_D2N, AU41 MIPI_CSI0_CLK1P, AU42 MIPI_CSI0_CLK1N
part T pins: AR30 C_PHY_VDD_1V8_1, AR33 C_PHY0_VDD, AR34 C_PHY_VDD_1V2_1, AT33 C_PHY0_VREG, AW41 MIPI_DPHY0_RX_D3P, AW42 MIPI_DPHY0_RX_D3N, AY40 MIPI_DPHY0_RX_D1N, AY42 MIPI_DPHY0_RX_D2P, BA31 MIPI_CPHY0_TX_TRIO0_A, BA32 MIPI_CPHY0_TX_TRIO1_A, BA34 MIPI_CPHY0_TX_TRIO1_B, BA35 MIPI_CPHY0_TX_TRIO2_B, BA37 MIPI_CPHY0_TX_TRIO2_C, BA38 MIPI_DPHY0_RX_D0P, BA40 MIPI_DPHY0_RX_D1P, BA41 MIPI_DPHY0_RX_CLKN, BA42 MIPI_DPHY0_RX_D2N, BB31 MIPI_CPHY0_TX_TRIO0_B, BB32 MIPI_CPHY0_TX_TRIO0_C, BB34 MIPI_CPHY0_TX_TRIO1_C, BB35 MIPI_CPHY0_TX_TRIO2_A, BB37 MIPI_DPHY0_TX_D3P, BB38 MIPI_DPHY0_RX_D0N, BB41 MIPI_DPHY0_RX_CLKP
part U pins: AR27 C_PHY1_VDD, AR35 C_PHY0_VDD_1V2_2, AT27 C_PHY1_VREG, AT30 C_PHY0_VDD_1V8_2, BA16 MIPI_DPHY1_TX_D0N, BA17 MIPI_DPHY1_TX_D1P, BA19 MIPI_DPHY1_TX_CLKN, BA20 MIPI_DPHY1_TX_D2P, BA22 MIPI_DPHY1_TX_D3N, BA23 MIPI_DPHY1_RX_D0P, BA25 MIPI_DPHY1_RX_D1N, BA26 MIPI_DPHY1_RX_CLKP, BA28 MIPI_DPHY1_RX_D2N, BA29 MIPI_DPHY1_RX_D3P, BB16 MIPI_DPHY1_TX_D0P, BB17 MIPI_DPHY1_TX_D1N, BB19 MIPI_DPHY1_TX_CLKP, BB20 MIPI_DPHY1_TX_D2N, BB22 MIPI_DPHY1_TX_D3P, BB23 MIPI_DPHY1_RX_D0N, BB25 MIPI_DPHY1_RX_D1P, BB26 MIPI_DPHY1_RX_CLKN, BB28 MIPI_DPHY1_RX_D2P, BB29 MIPI_DPHY1_RX_D3N
part V pins: AK12 EDP_TX0_VDD_IO_1V8, AL14 EDP_TX0_VDD_CMN_1V8, AM13 EDP_TX0_VDD_0V75_1, AN10 EDP_TX0_AVDD_0V75, AN12 EDP_TX0_VDD_0V75_2, AY1 EDP_TX0_AUXN, AY3 edp_TX0_REXT, BA1 EDP_TX0_AUXP, BA2 EDP_TX0_D3P, BA4 EDP_TX0_D0N, BA5 EDP_TX0_D1P, BA7 EDP_TX0_D2N, BB2 EDP_TX0_D3N, BB4 EDP_TX0_D0P, BB5 EDP_TX0_D1N, BB7 EDP_TX0_D2P
part W pins: C42 USB30_2_SSRXN, D41 USB30_2_SSTXN, D42 USB30_2_SSRXP, E41 USB30_2_SSTXP, F41 PCIE20_2_REFCLKP, F42 PCIE20_2_REFCLKN, G34 PCIE20_SATA30_0_AVDD_1V8, H34 PCIE20_SATA30_USB30_2_AVDD_1V8, H36 PCIE20_SATA30_0_AVDD_0V85, H41 PCIE20_0_TXP, H42 PCIE20_0_TXN, J36 PCIE20_SATA30_USB30_2_AVDD_0V85, J41 PCIE20_0_RXN, J42 PCIE20_0_RXP, K41 PCIE20_0_REFCLKN, L42 PCIE20_0_REFCLKP
part X pins: D38 GPIO_C2_d, D39 GPIO_C6_d, D40 GPIO_C5_d, F37 GPIO_C7_d, G27 VCCIO4_1V8_1, G28 VCCIO4_1V8_2, G31 VCCIO4, G37 GPIO_C4_d, G38 GPIO_C7_d, G39 GPIO_C1_Z, G40 GPIO_C0_Z, H38 GPIO_C7_d, H39 GPIO_C0_Z, L37 GPIO_C6_d, L38 GPIO_C6_d, L39 GPIO_C3_d, L40 GPIO_C1_Z, M37 GPIO_C3_d, M38 GPIO_C2_d, M39 GPIO_C4_d, M40 GPIO_C5_d
part Y pins: AJ34 VCCIO6_1V8, AL33 VCCIO6_1, AM33 VCCIO6_2, AT15 I2S1_SDO1_M0, AU15 I2S1_SDI0_M0, AU22 I2C6_SCL_M3, AU23 GPIO4_B5_u, AV18 I2S1_SDI1_M0, AV19 I2S1_MCLK_M0, AV22 I2C5_SDA_M1, AV23 I2S1_SDO2_M0, AV26 I2S1_LRCK_TX_M0, AV27 I2S1_SDO3_M0, AW18 I2S1_SCLK_TX_M0, AW19 I2S1_LRCK_RX_M0, AW22 I2C5_SCL_M1, AW23 GPIO4_c0_u, AW26 I2S1_SDI2_M0, AW27 I2C6_SDA_M3, AY19 I2S1_SCLK_RX_M0, AY26 GPIO4_c1_u
part Z pins: AC33 VCCIO5_1, AC34 VCCIO5_2, AF35 RESERVED, AF36 VCCIO5_1V8, AR36 GPIO3_C0_d, AR37 SDIO_D1_M1, AR38 SDIO_D0_M1, AR39 GPIO3_B0_u, AT37 GPIO3_A7_u, AT38 SDIO_D2_M1, AT39 SDIO_CMD_M1, AT40 SDIO_D3_M1, AU30 I2C5_SCL_M0, AU34 GPIO3_C4_u, AV30 GPIO3_C6_u, AV31 GPIO3_D4_d, AV34 GPIO3_C5_u, AV35 GPIO3_B4_u, AV37 GPIO3_A6_d, AV38 SDIO_CLK_M1, AV39 GPIO3_B1_d, AV40 GPIO3_C2_d, AW30 GPIO3_D5_d, AW31 I2C5_SDA_M0, AW34 GPIO3_B2_d, AW35 GPIO3_B3_u, AW37 GPIO3_B6_d, AW38 GPIO3_C1_d, AW39 GPIO3_C3_d, AY27 GPIO3_D1_d, AY30 I2C7_SCL_M2, AY31 I2C7_SDA_M2, AY34 GPIO3_B7_d, AY35 GPIO3_B5_u

## STM32C011F6P6
designator IC?
ComponentLink1Description: Datasheet; ComponentLink1URL: *; ComponentLink2Description: Distributor Link; ComponentLink2URL: *
footprint QFN-56 (Footprint not found)
pins: 1 PB7, 2 PA6PC14-OSCX_IN (power), 3 PC15-OSCX_OUT (power), 4 VDD/VDDA, 5 VSS/VSSA, 6 PF2-NRST, 7 PA0, 8 PA1, 9 PA2, 10 PA3, 11 PA4, 12 PA5, 13 PA6, 14 PA7, 15 PA8, 16 PA11[PA9], 17 PA12[PA10], 18 PA13, 19 PA4-BOOT0, 20 PB6

## STM32C071RBT6
designator IC?
ComponentLink1Description: Datasheet; ComponentLink1URL: *; ComponentLink2Description: Distributor Link; ComponentLink2URL: *
pins: 1 PC11, 2 PC12, 3 PC13, 4 PC14-OSCX_IN, 5 PC15-OSCX_OUT, 6 PF3, 7 VREF+, 8 VDD/VDDA, 9 VSS/VSSA, 10 PF0-OSC_IN, 11 PF1-OSC_OUT, 12 PF2-NRST, 13 PC0, 14 PC1, 15 PC2, 16 PC3, 17 PA0, 18 PA1, 19 PA2, 20 PA3, 21 PA4, 22 PA5, 23 PA6, 24 PA7, 25 PC4, 26 PC5, 27 PB0, 28 PB1, 29 PB2, 30 PB10, 31 PB11, 32 PB12, 33 PB13, 34 PB14, 35 PB15, 36 PA8, 37 PA9, 38 PC6, 39 PC7, 40 PD8, 41 PD9, 42 PA10, 43 PA11_[PA9], 44 PA12_[PA10], 45 PA13, 46 PA14-BOOT0, 47 PA15, 48 PC8, 49 PC9, 50 PD0, 51 PD1, 52 PD2, 53 PD3, 54 PD4, 55 PD5, 56 PD6, 57 PB3, 58 PB4, 59 PB5, 60 PB6, 61 PB7, 62 PB8, 63 PB9, 64 PC10
text: Arm Cortex-M0+ MCU

## STM32G474RBT3
designator IC?
ComponentLink1Description: Datasheet; ComponentLink1URL: *; ComponentLink2Description: Distributor Link; ComponentLink2URL: *
part A pins: 2 PC13, 3 PC14-OSC32_IN, 4 PC15-OSC32_OUT, 5 PF0-OSC_IN, 6 PF1-OSC_OUT, 7 PG10-NRST, 8 PC0, 9 PC1, 10 PC2, 11 PC3, 12 PA0, 13 PA1, 14 PA2, 17 PA3, 18 PA4, 19 PA5, 20 PA6, 21 PA7, 22 PC4, 23 PC5, 24 PB0, 25 PB1, 26 PB2, 30 PB10, 33 PB11, 34 PB13, 35 PB13, 36 PB14, 37 PB15, 38 PC6, 39 PC7, 40 PC8, 41 PC9, 42 PA8, 43 PA9, 44 PA10, 45 PA11, 46 PA12, 49 PA13, 50 PA14, 51 PA15, 52 PC10, 53 PC11, 54 PC12, 55 PD2, 56 PB3, 57 PB4, 58 PB5, 59 PB6, 60 PB7, 61 PB8-BOOT10, 62 PB9
part B pins: 1 VBAT, 15 VSS, 16 VDD, 27 VSSA, 28 VREF+, 29 VDDA, 31 VSS, 32 VDD, 47 VSS, 48 VDD, 63 VSS, 64 VDD
part A text: MCU
part B text: MCU

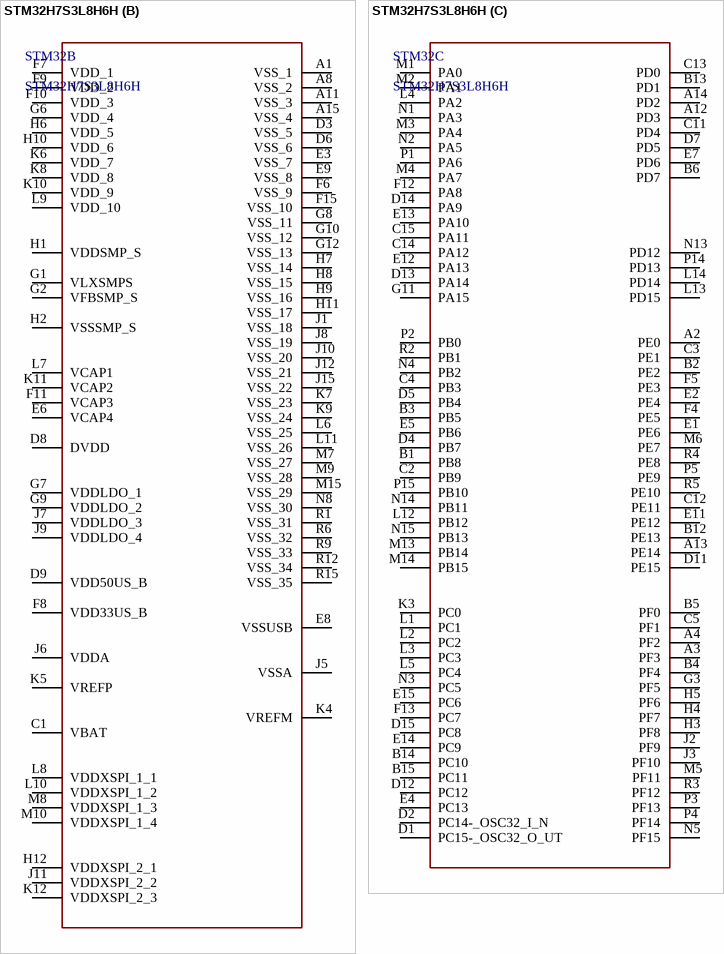
[diagram p9: symbol STM32H7S3L8H6H]

## STM32H7S3L8H6H
designator STM32
ComponentLink1Description: Datasheet; ComponentLink1URL: *; ComponentLink2Description: Distributor Link; ComponentLink2URL: *
part A pins: A5 PG3, A6 BOOT0, A7 PM12, A9 PM6, A10 PM3, B7 PM11, B8 PM9, B9 PM5, B10 PM2, B11 PG0, C6 PG2, C7 PM13, C8 PM14, C9 PM8, C10 PM1, D10 PM0, E10 PG1, F1 PG14, F2 PG12, F3 PG11, F14 PN1, G4 PG15, G5 PG13, G13 PN3, G14 PN0, G15 PN11, H13 PN10, H14 PN9, H15 PN2, J4 NRST, J13 PN7, J14 PN6, K1 PH0-_OSC_IN, K2 PH1-_OSC_OU_T, K13 PN8, K14 PN4, K15 PN5, L15 PN12, M11 PO3, M12 PP10, N6 PP12, N7 PP14, N9 PP2, N10 PP5, N11 PO2, N12 PP1, P6 PP11, P7 PO1, P8 PP15, P9 PP3, P10 PO5, P11 PP0, P12 PP7, P13 PP8, R7 PP13, R8 PP4, R10 PO4, R11 PP6, R13 PO0, R14 PP9
part B pins: A1 VSS_1, A8 VSS_2, A11 VSS_3, A15 VSS_4, C1 VBAT, D3 VSS_5, D6 VSS_6, D8 DVDD, D9 VDD50US_B, E3 VSS_7, E6 VCAP4, E8 VSSUSB, E9 VSS_8, F6 VSS_9, F7 VDD_1, F8 VDD33US_B, F9 VDD_2, F10 VDD_3, F11 VCAP3, F15 VSS_10, G1 VLXSMPS, G2 VFBSMP_S, G6 VDD_4, G7 VDDLDO_1, G8 VSS_11, G9 VDDLDO_2, G10 VSS_12, G12 VSS_13, H1 VDDSMP_S, H2 VSSSMP_S, H6 VDD_5, H7 VSS_14, H8 VSS_15, H9 VSS_16, H10 VDD_6, H11 VSS_17, H12 VDDXSPI_2_1, J1 VSS_18, J5 VSSA, J6 VDDA, J7 VDDLDO_3, J8 VSS_19, J9 VDDLDO_4, J10 VSS_20, J11 VDDXSPI_2_2, J12 VSS_21, J15 VSS_22, K4 VREFM, K5 VREFP, K6 VDD_7, K7 VSS_23, K8 VDD_8, K9 VSS_24, K10 VDD_9, K11 VCAP2, K12 VDDXSPI_2_3, L6 VSS_25, L7 VCAP1, L8 VDDXSPI_1_1, L9 VDD_10, L10 VDDXSPI_1_2, L11 VSS_26, M7 VSS_27, M8 VDDXSPI_1_3, M9 VSS_28, M10 VDDXSPI_1_4, M15 VSS_29, N8 VSS_30, R1 VSS_31, R6 VSS_32, R9 VSS_33, R12 VSS_34, R15 VSS_35
part C pins: A2 PE0, A3 PF3, A4 PF2, A12 PD3, A13 PE14, A14 PD2, B1 PB8, B2 PE2, B3 PB5, B4 PF4, B5 PF0, B6 PD7, B12 PE13, B13 PD1, B14 PC10, B15 PC11, C2 PB9, C3 PE1, C4 PB3, C5 PF1, C11 PD4, C12 PE11, C13 PD0, C14 PA12, C15 PA11, D1 PC15-_OSC32_O_UT, D2 PC14-_OSC32_I_N, D4 PB7, D5 PB4, D7 PD5, D11 PE15, D12 PC12, D13 PA14, D14 PA9, D15 PC8, E1 PE6, E2 PE4, E4 PC13, E5 PB6, E7 PD6, E11 PE12, E12 PA13, E13 PA10, E14 PC9, E15 PC6, F4 PE5, F5 PE3, F12 PA8, F13 PC7, G3 PF5, G11 PA15, H3 PF8, H4 PF7, H5 PF6, J2 PF9, J3 PF10, K3 PC0, L1 PC1, L2 PC2, L3 PC3, L4 PA2, L5 PC4, L12 PB12, L13 PD15, L14 PD14, M1 PA0, M2 PA1, M3 PA4, M4 PA7, M5 PF11, M6 PE7, M13 PB14, M14 PB15, N1 PA3, N2 PA5, N3 PC5, N4 PB2, N5 PF15, N13 PD12, N14 PB11, N15 PB13, P1 PA6, P2 PB0, P3 PF13, P4 PF14, P5 PE9, P14 PD13, P15 PB10, R2 PB1, R3 PF12, R4 PE8, R5 PE10
part A text: VDDXSPI1 Power domain; VDDXSPI2 Power domain